# Altium schematic symbol library CW_Schlib.SchLib: 25 symbols (part 2 of 2)
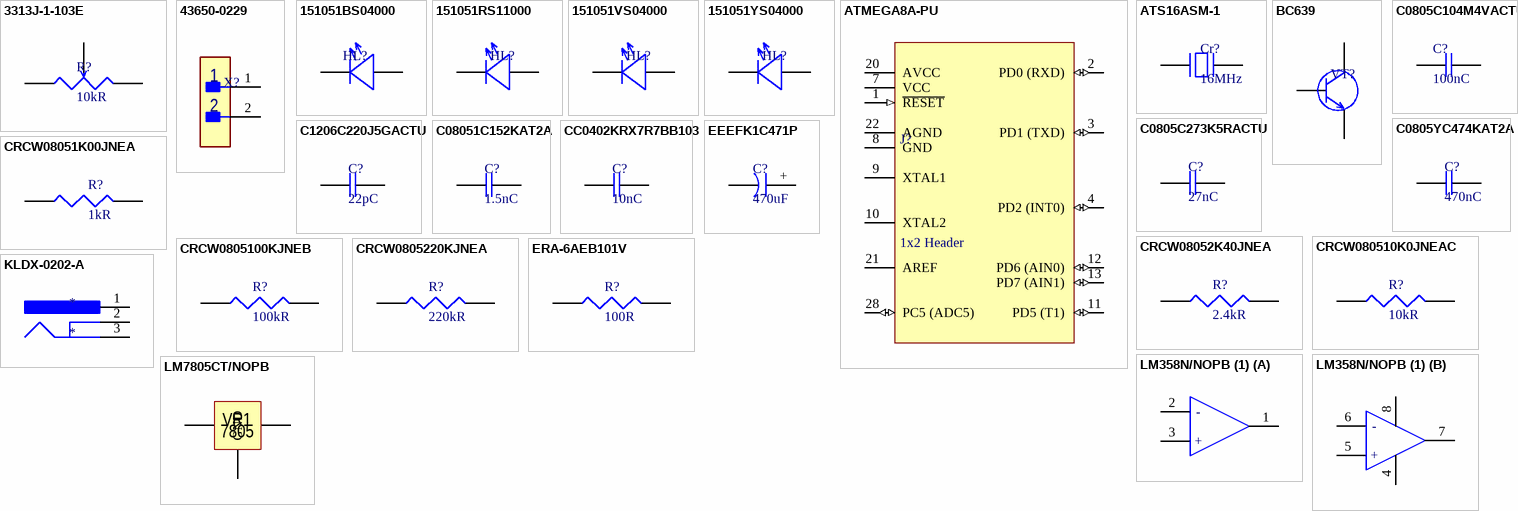
[diagram p1: symbols 3313J-1-103E to LM7805CT/NOPB]

## ERA-6AEB101V
designator R?, comment 100R
SISTOR, METAL FILM, 100 OHM, 125mW, 0.1%; Product Range:PANASONIC - ERA Series; Resistance:100ohm; Power Rating:125mW; Resistance Tolerance:± 0.1%; Resistor Case Style:0805 ^2012 Metric]; Resistor Element Type:Thin Film; MSL:-; Manufacturer Part Number: ERA-6AEB101V; Voltage Rating: 100V; Temperature Coefficient: 25ppm/°C; Supplier 1: Digi-Key; Supplier Part Number 1: P100DACT-ND; Manufacturer: Panasonic; RoHS: Yes; Category: Chip SMD Resistors; Stock 1: 69; Pricing 1: 1=0,31000, 10=0,26200, 100=0,10230, 1000=0,04284, 2500=0,03927 (USD); Mount: Surface Mount; Case/Package: 0805; Number of Pins: 2; Case Code (Imperial): 0805; Case Code (Metric): 2012; Size Code: 0805; Contact Plating: Tin; Min Operating Temperature: -55°C; Max Operating Temperature: 155°C; Tolerance: 0.1%; Power Rating: 125mW; Packaging: Tape and Reel; Resistance: 100R; Resistor Type: Thin Film; Termination: SMD/SMT; Number of Terminations: 2; Max Power Dissipation: 125mW; Series: ERA-6A; Resistance Tolerance: 0.1%; Construction: Rectangular; Voltage Rating (DC): 100V; Features: Automotive AEC-Q200; Package Quantity: 1; Technology: THIN FILM; Length: 2mm; Width: 1.25mm; Height: 0.5mm; Depth: 1.25mm; Radiation Hardening: No; REACH SVHC: No SVHC; Military Standard: Not; RoHS Compliant: Yes; Lead Free: Lead Free; ComponentLink1URL: https://datasheet.ciiva.com/11810/0900766b80beefcc-11810733.pdf?src-supplier=RSComponents; ComponentLink1Description: https://datasheet.ciiva.com/11810/0900766b80beefcc-11810733.pdf?src-supplier=RSComponents; ComponentLink2URL: https://datasheet.ciiva.com/29184/452698-da-01-en-widerstand-0805-era-29184051.pdf?src-supplier=Conrad; ComponentLink2Description: https://datasheet.ciiva.com/29184/452698-da-01-en-widerstand-0805-era-29184051.pdf?src-supplier=Conrad; ComponentLink3URL: https://datasheet.ciiva.com/16774/70068849-16774677.pdf?src-supplier=Allied+Electronics; ComponentLink3Description: https://datasheet.ciiva.com/16774/70068849-16774677.pdf?src-supplier=Allied+Electronics; ComponentLink4URL: https://datasheet.ciiva.com/22758/485442-22758149.pdf?src-supplier=Farnell; ComponentLink4Description: https://datasheet.ciiva.com/22758/485442-22758149.pdf?src-supplier=Farnell; ComponentLink5URL: https://datasheet.ciiva.com/46438/485442-46438213.pdf?src-supplier=Element14; ComponentLink5Description: https://datasheet.ciiva.com/46438/485442-46438213.pdf?src-supplier=Element14; ComponentLink6URL: https://datasheet.ciiva.com/46438/485442-46438214.pdf?src-supplier=Element14; ComponentLink6Description: https://datasheet.ciiva.com/46438/485442-46438214.pdf?src-supplier=Element14; ComponentLink7URL: https://datasheet.ciiva.com/16770/70068849-16770007.pdf?src-supplier=Allied+Electronics; ComponentLink7Description: https://datasheet.ciiva.com/16770/70068849-16770007.pdf?src-supplier=Allied+Electronics; ComponentLink8URL: https://datasheet.ciiva.com/30140/54aoa0000ce26-30140696.pdf?src-supplier=Onlinecomponents.com; ComponentLink8Description: https://datasheet.ciiva.com/30140/54aoa0000ce26-30140696.pdf?src-supplier=Onlinecomponents.com; ComponentLink9URL: https://datasheet.ciiva.com/17207/aoa0000ce26-17207961.pdf?src-supplier=Avnet+Europe; ComponentLink9Description: https://datasheet.ciiva.com/17207/aoa0000ce26-17207961.pdf?src-supplier=Avnet+Europe; ComponentLink10URL: https://datasheet.ciiva.com/24072/aoa0000ce26-32660-24072217.pdf?src-supplier=Mouser; ComponentLink10Description: https://datasheet.ciiva.com/24072/aoa0000ce26-32660-24072217.pdf?src-supplier=Mouser; ComponentLink11URL: https://datasheet.ciiva.com/28513/485442-28513850.pdf?src-supplier=Element14; ComponentLink11Description: https://datasheet.ciiva.com/28513/485442-28513850.pdf?src-supplier=Element14; ComponentLink12URL: https://datasheet.ciiva.com/48536/era-eng-tds-48536747.pdf?src-supplier=Distrelec; ComponentLink12Description: https://datasheet.ciiva.com/48536/era-eng-tds-48536747.pdf?src-supplier=Distrelec; ComponentLink13URL: https://datasheet.ciiva.com/16396/aoa0000ce26-16396828.pdf?src-supplier=Future+Electronics; ComponentLink13Description: https://datasheet.ciiva.com/16396/aoa0000ce26-16396828.pdf?src-supplier=Future+Electronics; ComponentLink14URL: https://datasheet.ciiva.com/9186/aoa0000ce26-9186749.pdf?src-supplier=Avnet; ComponentLink14Description: https://datasheet.ciiva.com/9186/aoa0000ce26-9186749.pdf?src-supplier=Avnet
footprint R100Ohm
pins: 1, 2

## KLDX-0202-A
designator *
KYCON - KLDX-0202-A - DC Power Connector, Jack, 3.5 A, 2 mm, PCB Mount, Through Hole; Number of Contacts: 2; Gender: Female; Current Rating: 3.5A; Voltage Rating: 24V; Insulation Resistance: 100MR; Supplier 1: Digi-Key; Supplier Part Number 1: 2092-KLDX-0202-A-ND; Manufacturer: Kycon; Manufacturer Part Number: KLDX-0202-A; RoHS: Yes; Category: Connectors; Stock 1: 10383; Pricing 1: 1=0,54000, 10=0,50600, 25=0,45560, 50=0,40480, 100=0,38790, 250=0,35420, 500=0,33734, 1000=0,27831, 2500=0,25300 (USD); Mount: Through Hole; Contact Material: Brass; Contact Plating: Tin; Housing Material: PBT; Color: Black; Min Operating Temperature: -25°C; Max Operating Temperature: 85°C; Packaging: Bag; Termination: Solder; Orientation: Right Angle; Package Quantity: 500; Connector Type: Power; Contact Gender: Female; Series: KLDX; Voltage Rating (DC): 24V; Radiation Hardening: No; Flammability Rating: UL94 V-0; RoHS Compliant: Yes; ComponentLink1URL: http://www.mouser.com/ds/2/222/KLDX_0202_LT-334784.pdf?src-supplier=Mouser; ComponentLink1Description: http://www.mouser.com/ds/2/222/KLDX_0202_LT-334784.pdf?src-supplier=Mouser; ComponentLink2URL: http://domino2.kycon.com/catalog_PDF/KLDX_0202.pdf?src-supplier=Avnet; ComponentLink2Description: http://domino2.kycon.com/catalog_PDF/KLDX_0202.pdf?src-supplier=Avnet; ComponentLink3URL: http://domino2.kycon.com/catalog_PDF/KLDX_0202.pdf?src-supplier=Avnet+Europe; ComponentLink3Description: http://domino2.kycon.com/catalog_PDF/KLDX_0202.pdf?src-supplier=Avnet+Europe
footprint PG_Connector
pins: 1 PWR, 2, 3 GND

## LM358N/NOPB (1)
designator DA1.?, comment Amplifier (part B)  (value not drawn)
TEXAS INSTRUMENTS   LM358N/NOPB..   OP AMP, 1MHZ, 0.1V/S, 7MV, DIP8; Manufacturer: TI National Semiconductor; Slew Rate: 0.1V/µs; Operating Supply Voltage: 16V; Max Supply Voltage: 32V; Min Supply Voltage: 3V; Nominal Supply Current: 500uA; Common Mode Rejection Ratio: 65dB; Voltage Gain: 100dB; Min Dual Supply Voltage: 1.5V; Max Power Dissipation: 830mW; Number of Channels: 2; Output Current: 30mA; Input Bias Current: 250nA; Operating Supply Current: 1mA; Output Current per Channel: 40mA; Max Supply Current: 1.2mA; Supplier 1: Digi-Key; Manufacturer Part Number: LM358N/NOPB; RoHS: Yes; Category: Amplifiers - Op Amps, Buffer, Instrumentation; Stock 1: 24976; Pricing 1: 1=1,00000, 10=0,89100, 25=0,84600, 100=0,69480, 250=0,64952, 500=0,57400, 1000=0,47595 (USD); Mount: Through Hole; Case/Package: PDIP; Number of Pins: 8; Weight: 0.01lb; Min Operating Temperature: 0°C; Max Operating Temperature: 70°C; Bandwidth: 1MHz; Packaging: Rail/Tube; Unity Gain Bandwidth Product: 1MHz; Package Quantity: 40; Max Dual Supply Voltage: 16V; Number of Circuits: 2; Gain Bandwidth Product: 1MHz; Input Offset Voltage (Vos): 7mV; Number of Amplifiers: 2; Number of Elements: 2; Power Dissipation: 830mW; Power Supply Rejection Ratio (PSRR): 65dB; Length: 9.27mm; Width: 6.35mm; Height: 3.3mm; Radiation Hardening: No; REACH SVHC: No SVHC; Lead Free: Lead Free; Supplier Part Number 1: LM358NNS/NOPB-ND
footprint LM358
part A pins: 1 OUT_A, 2 -, 3 +
part B pins: 4 GND, 5 +, 6 -, 7 OUT_B, 8 VCC

## LM7805CT/NOPB
designator DA?, comment 5V  (value not drawn)
Series 3-Terminal Positive Regulators; Manufacturer: Texas Instruments; Manufacturer Part Number: LM7805CT/NOPB; Number of Outputs: 1; Quiescent Current: 8mA; Output Type: Fixed; Max Input Voltage: 35V; Max Output Current: 1A; Dropout Voltage: 2V; Min Input Voltage: 10V; Accuracy: 2%; Supplier 1: Digi-Key; RoHS: Yes; Category: Voltage Regulators - Linear; Stock 1: 13155; Pricing 1: 1=1,63000, 10=1,46300, 25=1,38080, 100=1,17630, 250=1,10452, 500=0,96646, 1000=0,87007 (USD); Mount: Through Hole; Case/Package: TO-220; Number of Pins: 3; Min Operating Temperature: 0°C; Max Operating Temperature: 125°C; Packaging: Rail/Tube; Package Quantity: 45; Polarity: Positive; Series: -; Output Voltage: 5V; Output Current: 1A; Number of Regulators: 1; Output Voltage Accuracy: 2%; Length: 10.16mm; Width: 4.7mm; Height: 8.89mm; Radiation Hardening: No; Lead Free: Contains Lead; RoHS Compliant: Yes; ComponentLink1URL: https://datasheet.ciiva.com/45987/902071-45987836.pdf?src-supplier=Jameco; ComponentLink1Description: https://datasheet.ciiva.com/45987/902071-45987836.pdf?src-supplier=Jameco; ComponentLink2URL: https://datasheet.ciiva.com/15083/lm7805c-15083790.pdf?src-supplier=Digi-Key; ComponentLink2Description: https://datasheet.ciiva.com/15083/lm7805c-15083790.pdf?src-supplier=Digi-Key; ComponentLink3URL: https://datasheet.ciiva.com/14280/lm340-n-14280911.pdf?src-supplier=Avnet; ComponentLink3Description: https://datasheet.ciiva.com/14280/lm340-n-14280911.pdf?src-supplier=Avnet; Supplier Part Number 1: 296-47192-ND
footprint LM7805
pins: 1 Input, 2 Output, 3 GND
text: VR1; 7805